# EAGLE library part HI9P0508-5Z (library Intersil_By_element14_Batch_1)
Analog Multiplexers
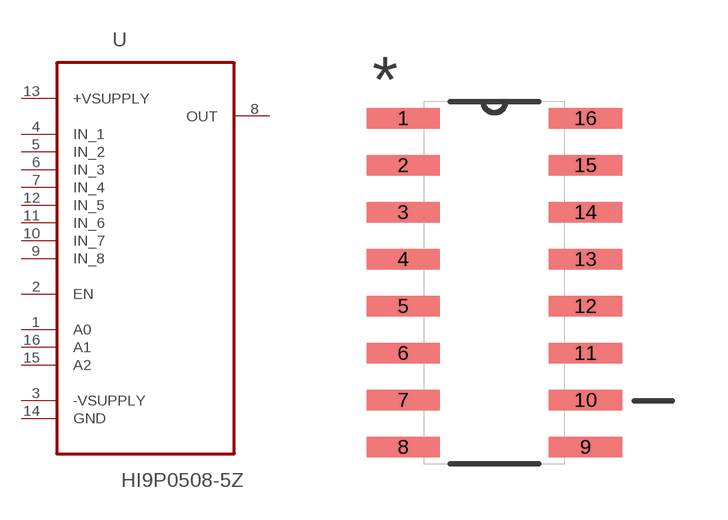
[diagram p135: symbol with the pads of SOIC127P600X175-16N; footprint SOIC127P600X175-16N]

Designator prefix U

## HI9P0508-5Z (MPN: HI9P0508-5Z; OC_FARNELL: 1561986; OC_NEWARK: 61J6062; PACKAGE: SOIC-16; SUPPLIER: INTERSIL)  [SOIC127P600X175-16N]
1  A0  in
2  EN  in
3  -VSUPPLY  in
4  IN_1  in
5  IN_2  in
6  IN_3  in
7  IN_4  in
8  OUT  out
9  IN_8  out
10  IN_7  in
11  IN_6  in
12  IN_5  in
13  +VSUPPLY  in
14  GND  pas
15  A2  in
16  A1  in

## Footprint SOIC127P600X175-16N (pad centres in mm)
smd 1.981 x 0.559: 1 -2.464,4.445; 2 -2.464,3.175; 3 -2.464,1.905; 4 -2.464,0.635; 5 -2.464,-0.635; 6 -2.464,-1.905; 7 -2.464,-3.175; 8 -2.464,-4.445; 9 2.464,-4.445; 10 2.464,-3.175; 11 2.464,-1.905; 12 2.464,-0.635; 13 2.464,0.635; 14 2.464,1.905; 15 2.464,3.175; 16 2.464,4.445